# Altium footprint library TZJLIB.PcbLib: 76 footprints (part 1 of 5)
Each footprint in its own frame and in the unit in brackets; x right, y up, seen from the top. Pads: shape width x height; smd on the part's side, far side on the other; paste and mask are expansions set on the pad; w line width, h text height; cw(c..) or ccw(c..) is an arc to the next point about the centre after c.
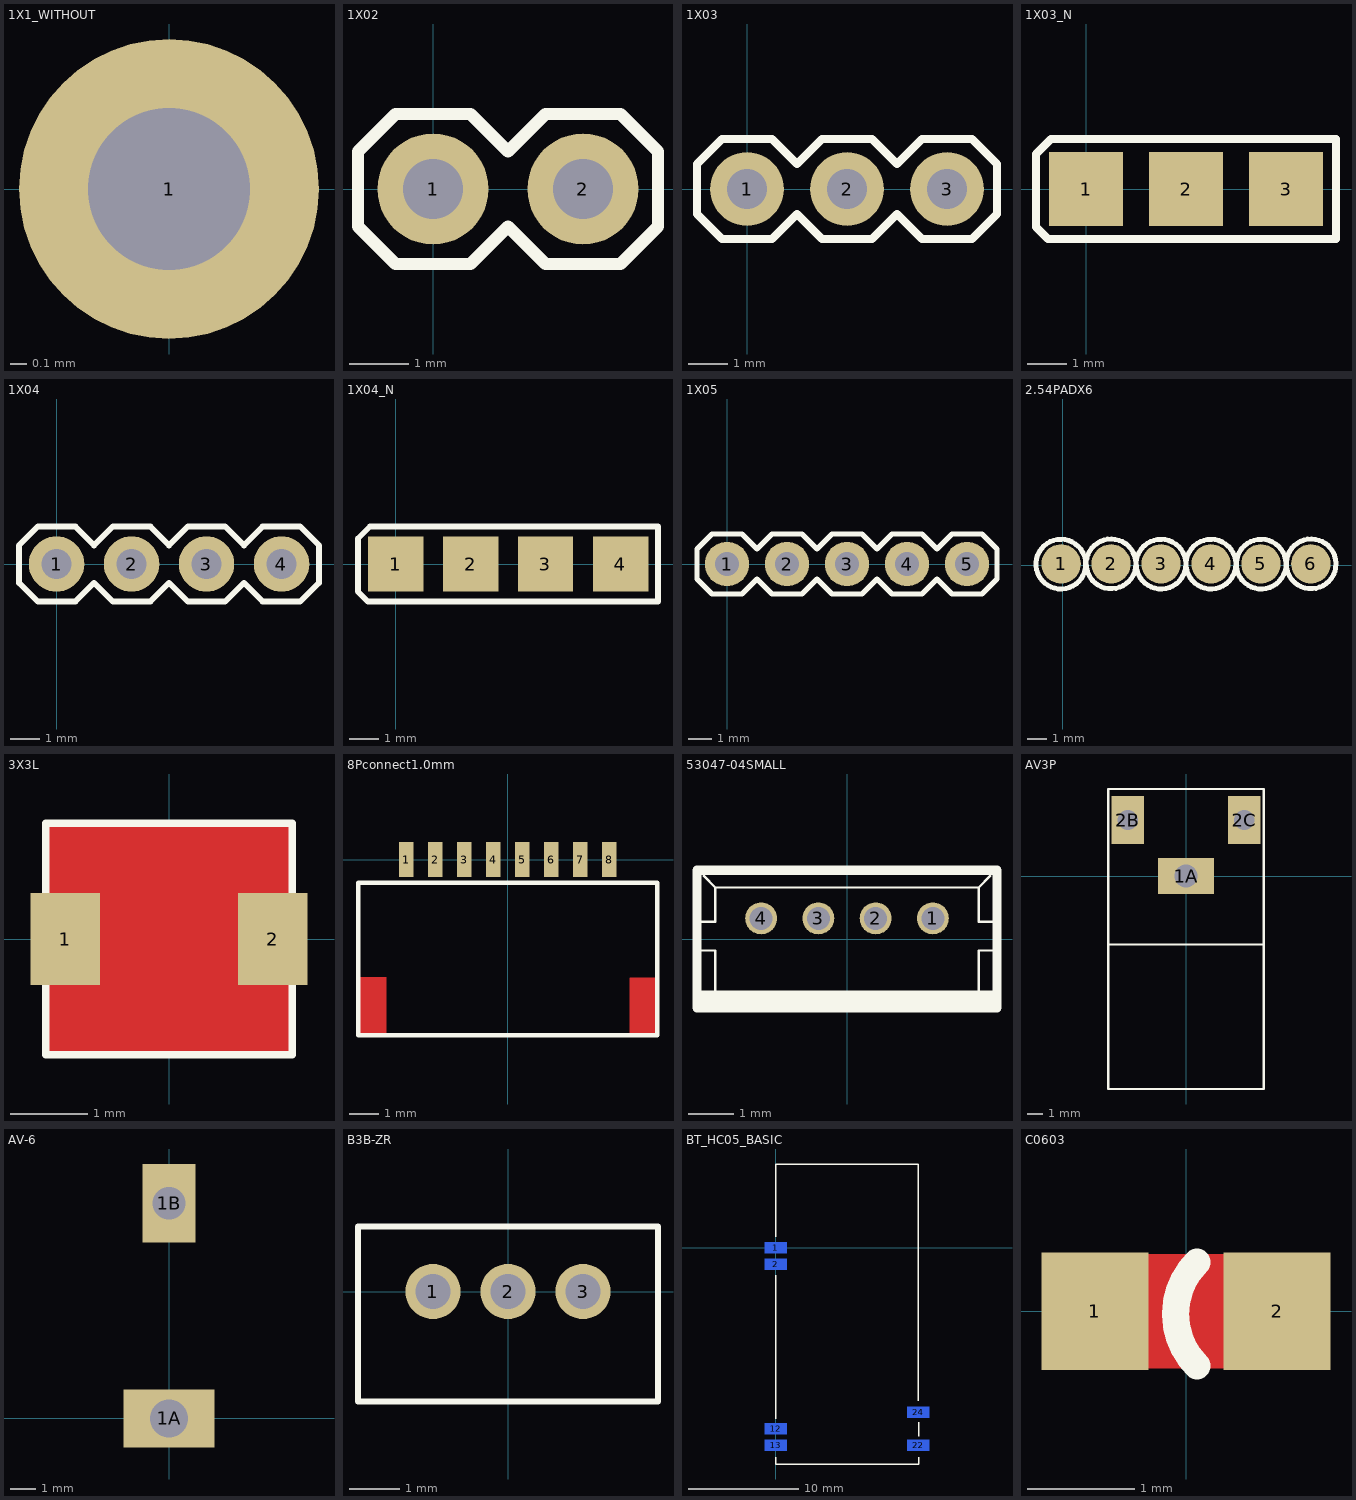
[diagram p0: the footprints below, top view; thin cyan lines are the x and y axes]

## 1X1_WITHOUT [mil] "1X1_WITHOUT"
pads (1):
  round 74 hole 40: 1(0,0)

## 1X02 [mil] "1X02"
pads (2):
  round 74 hole 40: 1(0,0) 2(100,0)
Top Overlay:
  lines w8: -50,-25 -25,-50 25,-50 50,-25 75,-50 125,-50 150,-25 150,25 125,50 75,50 50,25 25,50 -25,50 -50,25 -50,-25

## 1X03 [mil] "1X03"
pads (3):
  round 74 hole 40: 1(0,0) 2(100,0) 3(200,0)
Top Overlay:
  lines w8: -50,-25 -25,-50 25,-50 50,-25 75,-50 125,-50 150,-25 175,-50 225,-50 250,-25 250,25 225,50 175,50 150,25 125,50 75,50 50,25 25,50 -25,50 -50,25 -50,-25

## 1X03_N [mil] "1X03"
pads (3):
  rect 74x74 smd: 1(0,0) 2(100,0) 3(200,0)
Top Overlay:
  lines w8: -50,-38 -50,35 -35,50 75,50 175,50 250,50 250,-50 175,-50 75,-50 -38,-50 -50,-38

## 1X04 [mil] "1X04"
pads (4):
  round 74 hole 40: 1(0,0) 2(100,0) 3(200,0) 4(300,0)
Top Overlay:
  lines w8: -50,-25 -25,-50 25,-50 50,-25 75,-50 125,-50 150,-25 175,-50 225,-50 250,-25 275,-50 325,-50 350,-25 350,25 325,50 275,50 250,25 225,50 175,50 150,25 125,50 75,50 50,25 25,50 -25,50 -50,25 -50,-25

## 1X04_N [mil] "1X04"
pads (4):
  rect 74x74 smd: 1(0,0) 2(100,0) 3(200,0) 4(300,0)
Top Overlay:
  lines w8: -50,-37 -37,-50 75,-50 175,-50 275,-50 350,-50 350,50 275,50 175,50 75,50 -34,50 -50,34 -50,-37

## 1X05 [mil] "1X05"
pads (5):
  round 74 hole 40: 1(0,0) 2(100,0) 3(200,0) 4(300,0) 5(400,0)
Top Overlay:
  lines w8: -50,-25 -25,-50 25,-50 50,-25 75,-50 125,-50 150,-25 175,-50 225,-50 250,-25 275,-50 325,-50 350,-25 375,-50 425,-50 450,-25 450,25 425,50 375,50 350,25 325,50 275,50 250,25 225,50 175,50 150,25 125,50 75,50 50,25 25,50 -25,50 -50,25 -50,-25

## 2.54PADX6 [mm]
pads (6):
  round 2 smd: 1(-0.089,0.063) 2(2.451,0.064) 3(4.991,0.064) 4(7.531,0.064) 5(10.071,0.064) 6(12.611,0.064)
Top Overlay:
  lines w0.254: 1.162,0.091 ccw(c-0.102,0.051) 1.163,0.051 ; 3.715,0.104 ccw(c2.451,0.064) 3.716,0.064 ; 6.255,0.091 ccw(c4.991,0.051) 6.256,0.051 ; 8.795,0.091 ccw(c7.531,0.051) 8.796,0.051 ; 11.348,0.091 ccw(c10.084,0.051) 11.348,0.051 ; 13.888,0.104 ccw(c12.624,0.064) 13.888,0.063

## 3X3L [mm]
height 1.5
pads (2):
  rect 0.9x1.2 smd: 1(-1.346,0) 2(1.346,0)
Top Layer:
  pour cut-out: -1.6,-1.5 -1.6,1.5 1.6,1.5 1.6,-1.5
Top Overlay:
  lines w0.1: -1.6,-1.5 -1.6,1.5 1.6,1.5 1.6,-1.5 -1.6,-1.5

## 8Pconnect1.0mm [mm]
pads (8):
  rect 0.5x1.2 smd: 1(-3.5,0) 2(-2.5,0) 3(-1.5,0) 4(-0.5,0) 5(0.5,0) 6(1.5,0) 7(2.5,0) 8(3.5,0)
Top Layer:
  rectangle: -5.156,-6.045 -4.166,-4.039
  rectangle: 4.191,-6.071 5.182,-4.064
Top Overlay:
  lines w0.152: -5.15,-6.05 -5.15,-0.8 5.15,-0.8 5.15,-6.05 -5.15,-6.05

## 53047-04SMALL [mil] "53047-04SMALL"
pads (4):
  round 27.5 hole 19.69: 1(73.82,17.72) 2(24.61,17.72) 3(-24.61,17.72) 4(-73.82,17.72)
Top Overlay:
  rectangle: -127.95,-59.06 127.95,-44.29
  lines w2: -127.95,-9.84 -113.19,-9.84 -113.19,-49.21 ; -127.95,14.76 -113.19,14.76 -113.19,44.29 ; -123.03,54.13 -113.19,44.29 ; 113.19,-49.21 113.19,-9.84 127.95,-9.84 ; 123.03,54.13 113.19,44.29 ; 127.95,14.76 113.19,14.76 113.19,44.29 ; -113.19,44.29 113.19,44.29
  lines w8: -128.94,-59.06 128.94,-59.06 128.94,59.06 -128.94,59.06 -128.94,-59.06

## AV3P [mm]
pads (3):
  rect 3.6x2.3 hole 1.5 square: 1A(0,0)
  rect 2.1x3.1 hole 1.3 square: 2B(-3.75,3.6) 2C(3.75,3.6)
Top Overlay:
  lines w0.152: -5,-4.4 -5,-13.7 5,-13.7 5,-4.4 ; -5,-4.4 5,-4.4 ; -5,-4.4 -5,5.6 5,5.6 5,-4.4

## AV-6 [mm]
pads (2):
  rect 3.6x2.3 hole 1.5 square: 1A(0,0)
  rect 2.1x3.1 hole 1.3 square: 1B(0,8.5)

## B3B-ZR [mm] "B3B-ZR"
pads (3):
  round 1.1 hole 0.7: 1(-1.5,0) 2(0,0) 3(1.5,0)
Top Overlay:
  lines w0.127: -3,-2.2 3,-2.2 3,1.3 -3,1.3 -3,-2.2

## BT_HC05_BASIC [mm] "BT_HC05_BASIC"
pads (6):
  rect 2x1 smd far side: 1(0,0) 2(0,-1.5) 12(0,-16.5) 13(0,-18) 22(13,-18) 24(13,-15)
Top Overlay:
  lines w0.127: 0,-19.05 0,-19.685 13.018,-19.685 13.018,-19.05 ; 0,-15.557 0,-2.54 ; 0,1 0,7.595 13,7.595 13,-13.923 ; 13.018,-17.145 13.018,-15.875

## C0603 [mm] "C0603"
pads (2):
  rect 1x1.1 smd: 1(-0.85,0) 2(0.85,0)
Top Layer:
  pour cut-out: -0.356,0.533 -0.356,-0.533 0.356,-0.533 0.356,0.533
Top Overlay:
  lines w0.254: 0.102,-0.508 cw(c0.584,-0.025) 0.102,0.457
Mechanical 6:
  rectangle: -0.2,-0.4 0.2,0.4